# Altium schematic symbol library LM5060.Schlib: 1 symbol
Pins are listed as number, name and electrical type; pins without a type are passive.

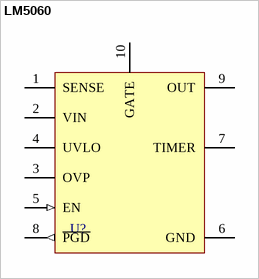
[diagram p0: symbol LM5060]

## LM5060
designator U?
High-Side Protection Controller
pins: 1 SENSE, 2 VIN (power), 3 OVP, 4 UVLO, 5 EN (in), 6 GND (power), 7 TIMER, 8 ~{PGD} (out), 9 OUT, 10 GATE